# Altium footprint library PCB - CONNECTOR - HARWIN - HARWIN M20-7821045.PcbLib: 1 footprints
Each footprint in its own frame and in the unit in brackets; x right, y up, seen from the top. Pads: shape width x height; smd on the part's side, far side on the other; paste and mask are expansions set on the pad; w line width, h text height; cw(c..) or ccw(c..) is an arc to the next point about the centre after c.
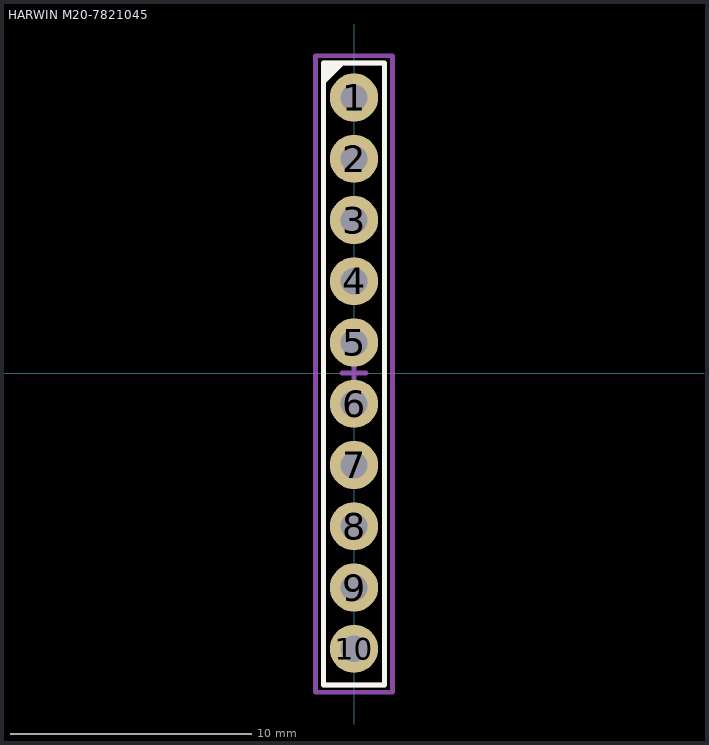
[diagram p0: the footprint, top view; thin cyan lines are the x and y axes]

## HARWIN M20-7821045 [mm] "2.54mm DIL PC TAIL PIN HEADER ASSEMBLY"
height 5
pads (10):
  round 2 hole 1.1: 1(0,11.43) 2(0,8.89) 3(0,6.35) 4(0,3.81) 5(0,1.27) 6(0,-1.27) 7(0,-3.81) 8(0,-6.35) 9(0,-8.89) 10(0,-11.43)
Top Overlay:
  region: -1.23,12.89 -1.23,11.99 -0.33,12.89
  lines w0.2: -1.27,-12.93 1.27,-12.93 1.27,12.86 -1.27,12.86 -1.27,-12.93
Top Assembly:
  lines w0.2: -0.5,0 0.5,0 ; 0,-0.5 0,0.5 ; -1.27,-12.93 1.27,-12.93 1.27,12.86 -1.27,12.86 -1.27,-12.93
Top Courtyard (Mech15):
  lines w0.2: -1.6,-13.23 1.6,-13.23 1.6,13.16 -1.6,13.16 -1.6,-13.23
3D body "M20-7821042.step": height 8.5, standoff -3, extent -1.25,-12.9 1.25,12.9